# EAGLE library part USB_BUB (library MTS-OTR_Custom)
'Standard' USB-BUB interface
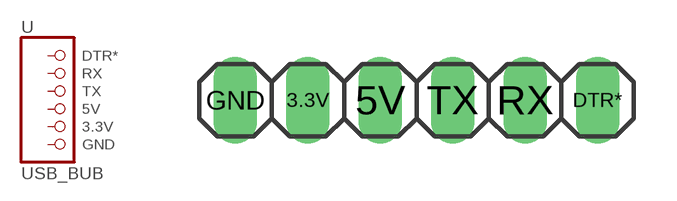
[diagram p6: symbol with the pads of USB_BUB; footprint USB_BUB]

Designator prefix -

## USB_BUB  [USB_BUB]
3.3V  3.3V  pas
5V  5V  pas
DTR*  DTR*  pas
GND  GND  pas
RX  RX  pas
TX  TX  pas

## Footprint USB_BUB (pad centres in mm)
drill 1.016 long: 3.3V -3.81,0; 5V -1.27,0; DTR* 6.35,0; GND -6.35,0; RX 3.81,0; TX 1.27,0